# EAGLE library part 1445055-6 (library con-hirose-dxlm)
Micro MATE-N-LOK Connectors grid 1.5 mm Source: ENG_CD_1445055_A.pdf
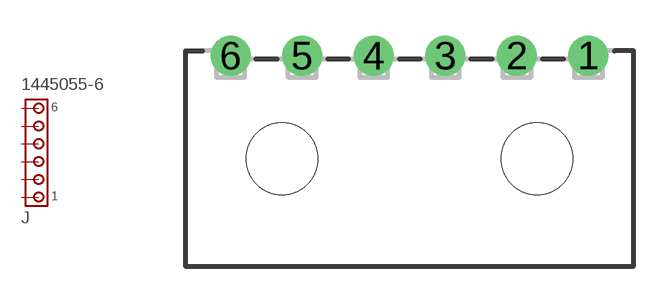
[diagram p142: symbol with the pads of 1445055-6; footprint 1445055-6]

Designator prefix J

## 1445055-6  [1445055-6]
1  1  pas
2  2  pas
3  3  pas
4  4  pas
5  5  pas
6  6  pas

## Footprint 1445055-6 (pad centres in mm)
Micro MATE-N-LOK Connectors grid 3.0 mm Source: ENG_CD_1445055_A.pdf
drill 1 pad 1.676: 1 7.5,4.32; 2 4.5,4.32; 3 1.5,4.32; 4 -1.5,4.32; 5 -4.5,4.32; 6 -7.5,4.32
hole 3 at -5.35,0
hole 3 at 5.35,0